# EAGLE library part SFV12R-4STBE1HLF (library con-amphenol)
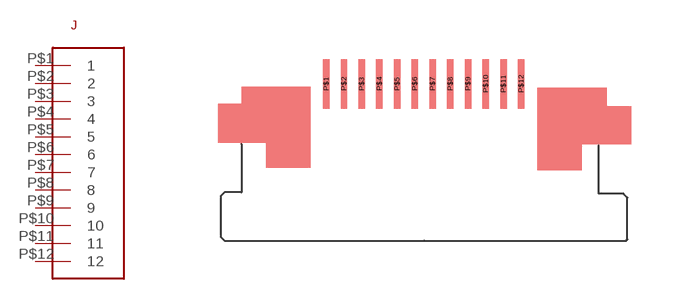
[diagram p12: symbol with the pads of SFV12R-4STBE1HLF; footprint SFV12R-4STBE1HLF]

Designator prefix J

## SFV12R-4STBE1HLF (MPN: SFV12R-4STBE1HLF)  [SFV12R-4STBE1HLF]
P$1  1
P$2  2
P$3  3
P$4  4
P$5  5
P$6  6
P$7  7
P$8  8
P$9  9
P$10  10
P$11  11
P$12  12

## Footprint SFV12R-4STBE1HLF (pad centres in mm)
smd 0.18 x 1.4: P$1 -2.759,1.876; P$2 -2.259,1.876; P$3 -1.759,1.876; P$4 -1.259,1.876; P$5 -0.759,1.876; P$6 -0.259,1.876; P$7 0.241,1.876; P$8 0.741,1.876; P$9 1.241,1.876; P$10 1.741,1.876; P$11 2.241,1.876; P$12 2.741,1.876